# EAGLE library part 55932-0610 (library 55932-0610)
Molex MICROCLASP Series, Series Number 55932, 2mm Pitch 6 Way 1 Row Straight PCB Header, Solder Termination, 3A Source: Datasheet <http://www.molex.com/pdm_docs/sd/559320610_sd.pdf>
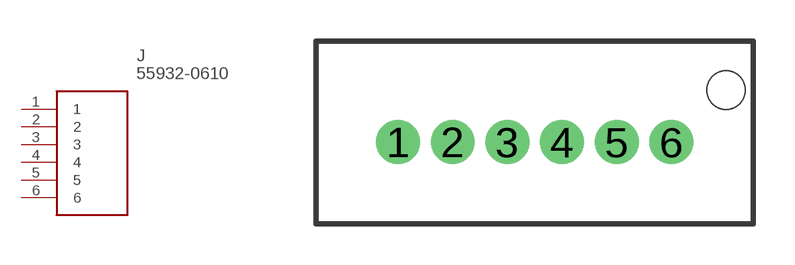
[diagram p0: symbol with the pads of 55932-0610; footprint 55932-0610]

Designator prefix J

## 55932-0610 (Description: Molex MICROCLASP Series, Series Number 55932, 2mm Pitch 6 Way 1 Row Straight PCB Header, Solder Termination, 3A; Height: mm; Manufacturer_Name: Molex; Manufacturer_Part_Number: 55932-0610; Mouser_Part_Number: 538-55932-0610; Mouser_Price-Stock: https://www.mouser.co.uk/ProductDetail/Molex/55932-0610?qs=iFujUUZFeMIOtBrdbJdj4Q%3D%3D)  [55932-0610]
1  1
2  2
3  3
4  4
5  5
6  6

## Footprint 55932-0610 (pad centres in mm)
55932-0610
drill 1.05 pad 1.6: 1 -5,3; 2 -3,3; 3 -1,3; 4 1,3; 5 3,3; 6 5,3
hole 1.4 at 7,4.9